# Altium schematic symbol library OPAMP(1.8-5.5V, 2-Op, 350kHz, 8-SOIC).SchLib: 1 symbol
Pins are listed as number, name and electrical type; pins without a type are passive.

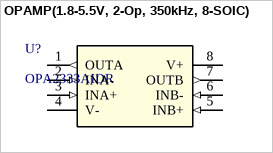
[diagram p0: symbol OPAMP(1.8-5.5V, 2-Op, 350kHz, 8-SOIC)]

## OPAMP(1.8-5.5V, 2-Op, 350kHz, 8-SOIC)
designator U?, comment OPA2333AIDR
1.8-V, 17-ÂµA, two-channel, micropower zero-drift CMOS operational amplifier 8-SOIC -40 to 125; Manufacturer: Texas Instruments; Manufacturer_PN: OPA2333AIDR; Package: 8-SOIC; Datasheet: https://www.ti.com/lit/ds/symlink/opa2333.pdf?HQS=dis-dk-null-digikeymode-dsf-pf-null-wwe&ts=1765466822969&ref_url=https%253A%252F%252Fwww.ti.com%252Fgeneral%252Fdocs%252Fsuppproductinfo.tsp%253FdistId%253D10%2526gotoUrl%253Dhttps%253A%252F%252Fwww.ti.com%252Flit%252Fgpn%252Fopa2333; Digikey_Link: https://www.digikey.it/en/products/detail/texas-instruments/OPA2333AIDR/1572133
footprint D8
pins: 1 OUTA (out), 2 INA- (in), 3 INA+ (in), 4 V- (power), 5 INB+ (in), 6 INB- (in), 7 OUTB (out), 8 V+ (power)